# Altium schematic symbol library SAW12_10_4.Schlib: 1 symbol
Pins are listed as number, name and electrical type; pins without a type are passive.

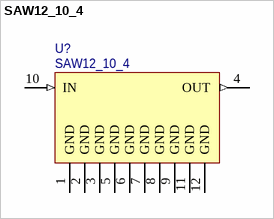
[diagram p0: symbol SAW12_10_4]

## SAW12_10_4
designator U?
SAW IF filter
pins: 1 GND (power), 2 GND (power), 3 GND (power), 4 OUT (out), 5 GND (power), 6 GND (power), 7 GND (power), 8 GND (power), 9 GND (power), 10 IN (in), 11 GND (power), 12 GND (power)
2 alternate drawings of the same symbol